# Altium schematic symbol library USB_2.0.SchLib: 1 symbol
Pins are listed as number, name and electrical type; pins without a type are passive.

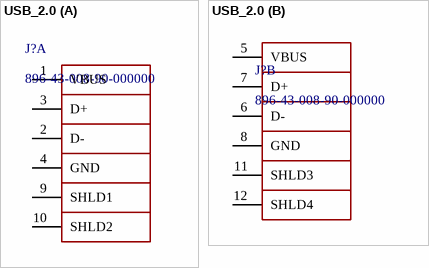
[diagram p0: symbol USB_2.0]

## USB_2.0
designator J?, comment 896-43-008-90-000000
Double Row Type A USB Socket, USB 2.0, 8 Position, RoHS, Tray; Mounting Angle: Right; Insulation Resistance: 1000MOhms; Brand: Mill-Max; Number of Positions / Contacts: 4; Gender: Female; Number of Ports: 1; Connector Type: USBTypeAReceptacle; Datasheet URL: https://www.mill-max.com/products/datasheet/sockets/896-43-008-90-000000; Package Description: 8-Pin Through Hole Device, Body 16.967 x 14.503 mm; Mounting Technology: ThroughHole; Factory Pack Quantity: 120; Manufacturer URL: https://www.mill-max.com/; Package Reference: 896-43-008-90-000000; Contact Plating: Gold; Termination Style: SMD; Datasheet Version: 09/2016; Standard: USB; Manufacturer: Mill-Max; Product: USBTypeAConnectors; Number of Contacts: 4; Contact Material: CopperAlloy; RoHS: Details; Mounting Style: SMD/SMT; Number of Positions: 4; Product Category: USBConnectors; Packaging: Tube
footprint MILL-896-43-008-90-000000_V (USB, 8-Leads, Body 16.967x14.503mm)
part A pins: 1 VBUS, 2 D-, 3 D+, 4 GND, 9 SHLD1, 10 SHLD2
part B pins: 5 VBUS, 6 D-, 7 D+, 8 GND, 11 SHLD3, 12 SHLD4